# Altium footprint library D 电容.PCBLIB: 81 footprints (part 4 of 6)
Each footprint in its own frame and in the unit in brackets; x right, y up, seen from the top. Pads: shape width x height; smd on the part's side, far side on the other; paste and mask are expansions set on the pad; w line width, h text height; cw(c..) or ccw(c..) is an arc to the next point about the centre after c.
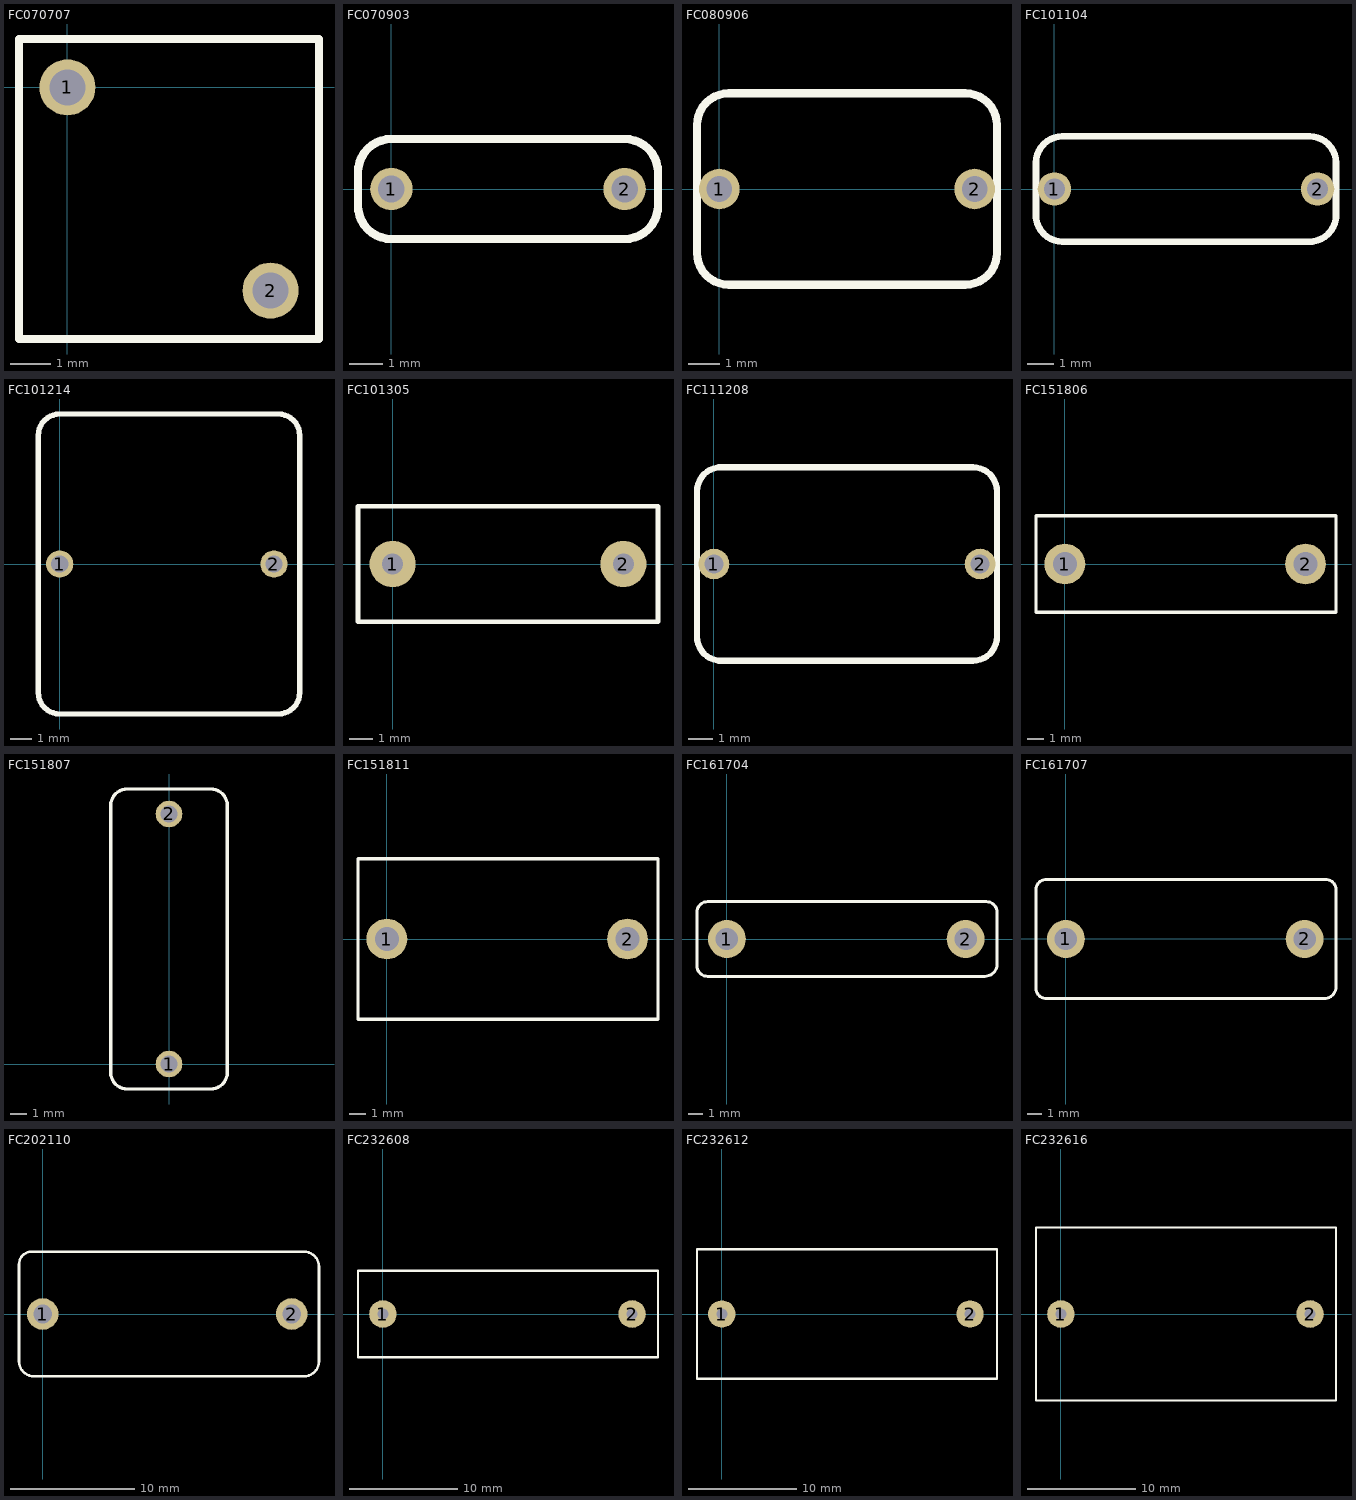
[diagram p3: the footprints below, top view; thin cyan lines are the x and y axes]

## FC070707 [mm] "薄膜电容/脚距7mm/长7mm/宽7mm/高13mm"
height 13
pads (2):
  round 1.4 hole 0.9: 1(0,0) 2(5.08,-5.08)
Top Overlay:
  lines w0.203: -1.21,-6.29 6.29,-6.29 6.29,1.21 -1.21,1.21 -1.21,-6.29

## FC070903 [mm] "薄膜电容/脚距7mm/长9mm/宽3mm/高10mm"
height 10
pads (2):
  round 1.27 hole 0.8: 1(0,0) 2(7,0)
Top Overlay:
  lines w0.254: -1,-0.6 -1,0.6 ; -1,-0.5 ccw(c0,-0.5) 0,-1.5 7.1,-1.5 ; -1,0.5 cw(c0,0.5) 0,1.5 ; -0.1,1.5 7.1,1.5 ; 7,-1.5 ccw(c7,-0.5) 8,-0.5 ; 7,1.5 cw(c7,0.5) 8,0.5 ; 8,-0.6 8,0.6

## FC080906 [mm] "薄膜电容/脚距8mm/长9mm/宽6mm/高9mm"
height 9
pads (2):
  round 1.27 hole 0.8: 1(0,0) 2(8,0)
Top Overlay:
  lines w0.254: -0.7,-2 ccw(c0.3,-2) 0.3,-3 7.7,-3 ccw(c7.7,-2) 8.7,-2 8.7,2 ccw(c7.7,2) 7.7,3 0.3,3 ccw(c0.3,2) -0.7,2 -0.7,-2

## FC101104 [mm] "薄膜电容/脚距10mm/长11mm/宽4mm/高9mm"
height 9
pads (2):
  round 1.27 hole 0.8: 1(0,0) 2(10,0)
Top Overlay:
  lines w0.254: -0.7,-1.1 -0.7,1 cw(c0.3,1) 0.3,2 9.6,2 ; -0.7,-1 ccw(c0.3,-1) 0.3,-2 9.8,-2 ; 9.7,-2 ccw(c9.7,-1) 10.7,-1 ; 9.7,2 cw(c9.7,1) 10.7,1 10.7,-1.1

## FC101214 [mm] "薄膜电容/脚距10mm/长12mm/宽14mm/高8mm"
height 8
pads (2):
  round 1.27 hole 0.8: 1(0,0) 2(10,0)
Top Overlay:
  lines w0.254: -1,-6 ccw(c0,-6) 0,-7 10.2,-7 ccw(c10.2,-6) 11.2,-6 11.2,6 ccw(c10.2,6) 10.2,7 0,7 ccw(c0,6) -1,6 -1,-6

## FC101305 [mm] "薄膜电容/脚距10mm/长13mm/宽5mm/高11mm"
height 11
pads (2):
  round 2 hole 0.9: 1(0,0) 2(10,0)
Top Overlay:
  lines w0.203: 11.5,0 11.5,-2.5 ; 11.5,-2.5 -1.5,-2.5 -1.5,2.5 11.5,2.5 11.5,-2.5

## FC111208 [mm] "薄膜电容/脚距11mm/长12mm/宽8mm/高19mm"
height 19
pads (2):
  round 1.27 hole 0.8: 1(0,0) 2(11,0)
Top Overlay:
  lines w0.254: 0.2,-4 10.7,-4 ccw(c10.7,-3) 11.7,-3 11.7,3 ccw(c10.7,3) 10.7,4 0.2,4 ; 0.3,-4 cw(c0.3,-3) -0.7,-3 -0.7,3 cw(c0.3,3) 0.3,4

## FC151806 [mm] "薄膜电容/脚距15mm/长18mm/宽6mm/高12mm"
height 12
pads (2):
  round 2.54 hole 1.5: 1(0,0) 2(15,0)
Top Overlay:
  lines w0.203: -1.8,-3 -1.8,3 16.9,3 16.9,-3 -1.8,-3

## FC151807 [mm] "薄膜电容/脚距15mm/长18mm/宽7mm"
pads (2):
  round 1.6 hole 1: 1(0,0) 2(0,15)
Top Overlay:
  lines w0.203: -3.5,-0.5 ccw(c-2.5,-0.5) -2.5,-1.5 2.5,-1.5 ccw(c2.5,-0.5) 3.5,-0.5 3.5,15.5 ccw(c2.5,15.5) 2.5,16.5 -2.5,16.5 ccw(c-2.5,15.5) -3.5,15.5 -3.5,-0.5

## FC151811 [mm] "薄膜电容/脚距15mm/长18mm/宽11mm/高19mm"
height 19
pads (2):
  round 2.54 hole 1.5: 1(0,0) 2(15,0)
Top Overlay:
  lines w0.203: -1.8,-5 -1.8,5 16.9,5 16.9,-5 -1.8,-5

## FC161704 [mm] "薄膜电容/脚距16mm/长17mm/宽4mm/高11mm"
height 11
pads (2):
  round 2.54 hole 1.5: 1(0,0) 2(16,0)
Top Overlay:
  lines w0.203: 2.3,2.5 17.2,2.5 ; 3.4,2.5 -1.3,2.5 ccw(c-1.3,1.8) -2,1.8 -2,-1.8 ccw(c-1.3,-1.8) -1.3,-2.5 -0.6,-2.5 17.3,-2.5 ; 15.6,2.5 17.4,2.5 cw(c17.4,1.8) 18.1,1.8 18.1,-1.7 cw(c17.3,-1.7) 17.3,-2.5 ; 15.9,-2.5 17.3,-2.5

## FC161707 [mm] "薄膜电容/脚距16mm/长17mm/宽7mm/高12mm"
height 12
pads (2):
  round 2.54 hole 1.5: 1(0,0) 2(16,0)
Top Overlay:
  lines w0.203: 2.3,4 17.4,4 cw(c17.4,3.3) 18.1,3.3 18.1,-3.2 cw(c17.3,-3.2) 17.3,-4 -1.3,-4 cw(c-1.3,-3.3) -2,-3.3 -2,3.3 cw(c-1.3,3.3) -1.3,4 3.4,4

## FC202110 [mm] "薄膜电容/脚距20mm/长21mm/宽10mm/高20mm"
height 20
pads (2):
  round 2.54 hole 1.5: 1(0,0) 2(20,0)
Top Overlay:
  lines w0.203: -0.3,-5 17.3,-5 ; 0.3,-5 -0.7,-5 cw(c-0.7,-3.8) -1.9,-3.8 -1.9,4 cw(c-0.9,4) -0.9,5 2.7,5 ; 2.3,5 17.4,5 ; 16.6,-5 21,-5 ccw(c21,-3.8) 22.2,-3.8 22.2,3.8 ccw(c21,3.8) 21,5 17.2,5

## FC232608 [mil] "薄膜电容/脚距23mm/长26mm/宽8mm/高18mm"
height 708.66
pads (2):
  round 100 hole 40: 1(0,0) 2(905.51,0)
Top Overlay:
  lines w8: -90.55,-157.48 -90.55,157.48 ; -88.58,-157.48 1000,-157.48 1000,157.48 -88.58,157.48

## FC232612 [mil] "薄膜电容/脚距23mm/长26mm/宽16mm/高22mm"
height 866.14
pads (2):
  round 100 hole 40: 1(0,0) 2(905.51,0)
Top Overlay:
  lines w8: -90.55,-236.22 -90.55,236.22 ; -88.58,-236.22 1003.94,-236.22 1003.94,236.22 ; -88.58,236.22 1000,236.22

## FC232616 [mil] "薄膜电容/脚距23mm/长26mm/宽16mm/高25mm"
height 984.25
pads (2):
  round 100 hole 40: 1(0,0) 2(905.51,0)
Top Overlay:
  lines w8: -90.55,-314.96 -90.55,314.96 ; -88.58,-314.96 1000,-314.96 1000,314.96 -88.58,314.96